# Altium schematic symbol library FQP3P50.SchLib: 2 symbols
Pins are listed as number, name and electrical type; pins without a type are passive.

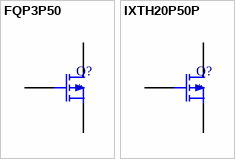
[diagram p0: symbols FQP3P50 to IXTH20P50P]

## FQP3P50
designator Q?
pins: 1 G, 2 D, 3 S

## IXTH20P50P
designator Q?
pins: 1 G, 2 D, 3 S